# Altium footprint library Inductor.PcbLib: 3 footprints
Each footprint in its own frame and in the unit in brackets; x right, y up, seen from the top. Pads: shape width x height; smd on the part's side, far side on the other; paste and mask are expansions set on the pad; w line width, h text height; cw(c..) or ccw(c..) is an arc to the next point about the centre after c.
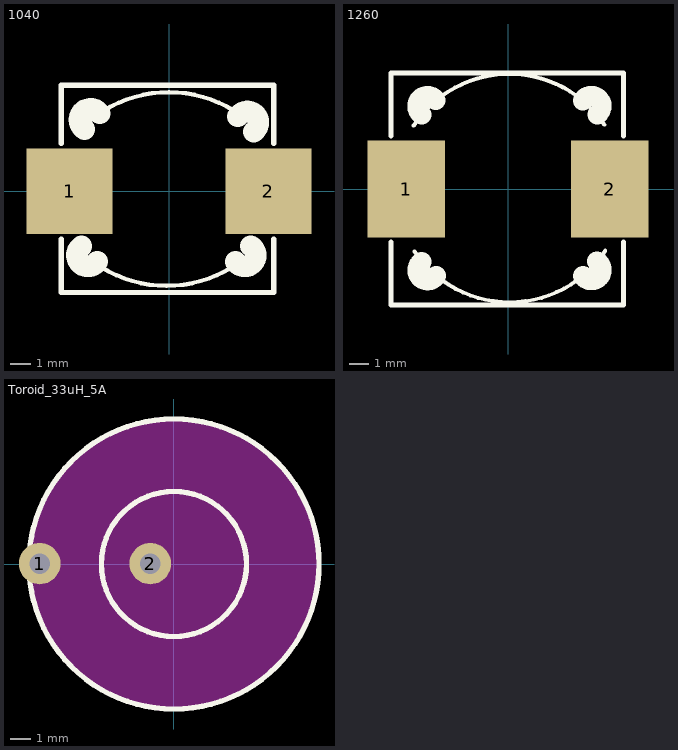
[diagram p0: the footprints below, top view; thin cyan lines are the x and y axes]

## 1040 [mm]
pads (2):
  rect 4.1x4.1 smd: 1(-4.75,0) 2(4.75,0)
Top Overlay:
  lines w0.203: -3.91,-3.144 ccw(c-0.118,1.375) -0.118,-4.525 ; -3.8,3.355 cw(c-0.008,-1.165) -0.008,4.735 ; -0.115,-4.525 ccw(c-0.115,1.375) 3.677,-3.144 ; -0.005,4.735 cw(c-0.005,-1.165) 3.787,3.355
  lines w0.254: -5.148,-2.281 -5.148,-4.845 5.012,-4.845 5.012,-2.281 ; -5.148,2.281 -5.148,5.061 5.012,5.061 5.012,2.281
  lines w1.016: -4.188,-2.631 ccw(c-3.878,-3.067) -3.427,-3.356 ; -4.039,2.96 cw(c-3.751,3.41) -3.315,3.719 ; 3.179,-3.377 ccw(c3.615,-3.067) 3.904,-2.617 ; 3.292,3.571 cw(c3.742,3.283) 4.052,2.847
3D body "CDRH104R.step": height 3.78, standoff -0.06, extent -5.228,-4.892 5.092,5.108

## 1260 [mm]
pads (2):
  rect 4x5 smd: 1(-5.25,0) 2(5.25,0)
Top Overlay:
  lines w0.203: -4.874,3.27 cw(c0.066,0.045) 0.076,5.945 cw(c0.068,0.045) 4.976,3.32 ; -4.824,-3.23 ccw(c0.083,0.045) 0.076,-5.855 ccw(c0.085,0.045) 5.026,-3.18
  lines w0.254: -6.039,-2.731 -6.039,-6 5.961,-6 5.961,-2.731 ; -6.039,2.731 -6.039,6 5.961,6 5.961,2.731
  lines w1.016: -4.467,-3.756 ccw(c-4.158,-4.192) -3.707,-4.48 ; -4.45,3.828 cw(c-4.161,4.278) -3.725,4.588 ; 3.859,4.57 cw(c4.309,4.282) 4.619,3.846 ; 3.877,-4.498 ccw(c4.313,-4.189) 4.601,-3.738
3D body "INDUTOR_12x12.step": height 7.46, standoff -0.1, extent -6.066,-6.021 5.934,5.979

## Toroid_33uH_5A [mm] "Toroid 14mmx6mm Pitch 5mm"
pads (2):
  round 2 hole 1: 1(-6.476,0.016) 2(-1.142,0.016)
Top Overlay:
  circle w0.254: c0,0 r7
  circle w0.254: c0,0 r3.5
Keep-Out Layer:
  circle w10: c0,0 r2.1
3D body "01.STEP": height 6.01, standoff 0.03, extent -6.941,-6.988 6.941,6.99